# Altium integrated library Connector - Header.IntLib: 1 symbol
Pins are listed as number, name and electrical type; pins without a type are passive.

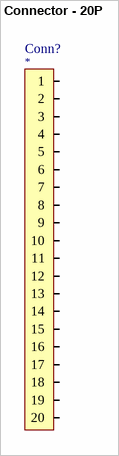
[diagram p0: symbol Connector - 20P]

## Connector - 20P
designator Conn?
Component Category: Connector; ComponentLink1Description: Datasheet; ComponentLink1URL: *; ComponentLink2Description: Supplier Link; ComponentLink2URL: *; Supplier: *; Supplier Part Number: *; Manufacturer: *; Operating Temperature, Min: -℃; Operating Temperature, Max: +℃; Quantity, Min: *; Quantity, Max: *; Price, Min: *; Supplier Currency: *; Price, Max: *; Supplier Link: *; Component Type: Header; Package: *; Manufacturer Part Number: *
footprint Connector - Omron, XG4C-2034
pins: 1, 2, 3, 4, 5, 6, 7, 8, 9, 10, 11, 12, 13, 14, 15, 16, 17, 18, 19, 20
2 alternate drawings of the same symbol